# Altium schematic symbol library 55935-0610.SchLib: 1 symbol
Pins are listed as number, name and electrical type; pins without a type are passive.

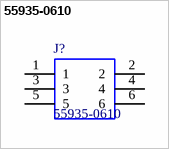
[diagram p0: symbol 55935-0610]

## 55935-0610
designator J?
Molex MICROCLASP Series, Series Number 55935, 2mm Pitch 6 Way 1 Row Right Angle PCB Header, Solder Termination, 3A; Mouser Part Number: 538-55935-0610; Manufacturer_Name: Molex; Manufacturer_Part_Number: 55935-0610; Datasheet Link: https://componentsearchengine.com/Datasheets/1/55935-0610.pdf
footprint 55935-0610
pins: 1, 2, 3, 4, 5, 6